# EAGLE library part FCCH_RFID_ESTOP (library fcch_eagle_parts_metal_mill)
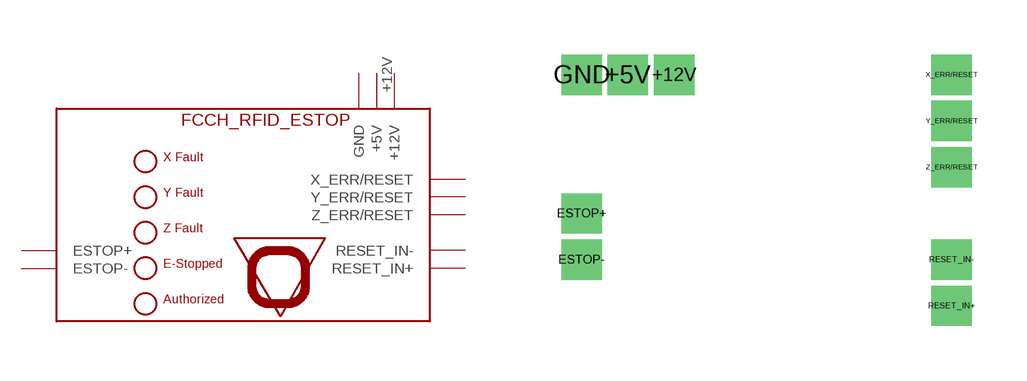
[diagram p6: symbol with the pads of FCCH_RFID_ESTOP; footprint FCCH_RFID_ESTOP]

Designator prefix -

## FCCH_RFID_ESTOP  [FCCH_RFID_ESTOP]
+5V  +5V
+12V  +12V
ESTOP+  ESTOP+
ESTOP-  ESTOP-
GND  GND
RESET_IN+  RESET_IN+
RESET_IN-  RESET_IN-
X_ERR/RESET  X_ERR/RESET
Y_ERR/RESET  Y_ERR/RESET
Z_ERR/RESET  Z_ERR/RESET

## Footprint FCCH_RFID_ESTOP (pad centres in mm)
drill 0.6 square: +5V -5.08,3.81; +12V -3.81,3.81; ESTOP+ -6.35,0; ESTOP- -6.35,-1.27; GND -6.35,3.81; RESET_IN+ 3.81,-2.54; RESET_IN- 3.81,-1.27; X_ERR/RESET 3.81,3.81; Y_ERR/RESET 3.81,2.54; Z_ERR/RESET 3.81,1.27